# Altium footprint library Diodes.PcbLib: 15 footprints
Each footprint in its own frame and in the unit in brackets; x right, y up, seen from the top. Pads: shape width x height; smd on the part's side, far side on the other; paste and mask are expansions set on the pad; w line width, h text height; cw(c..) or ccw(c..) is an arc to the next point about the centre after c.
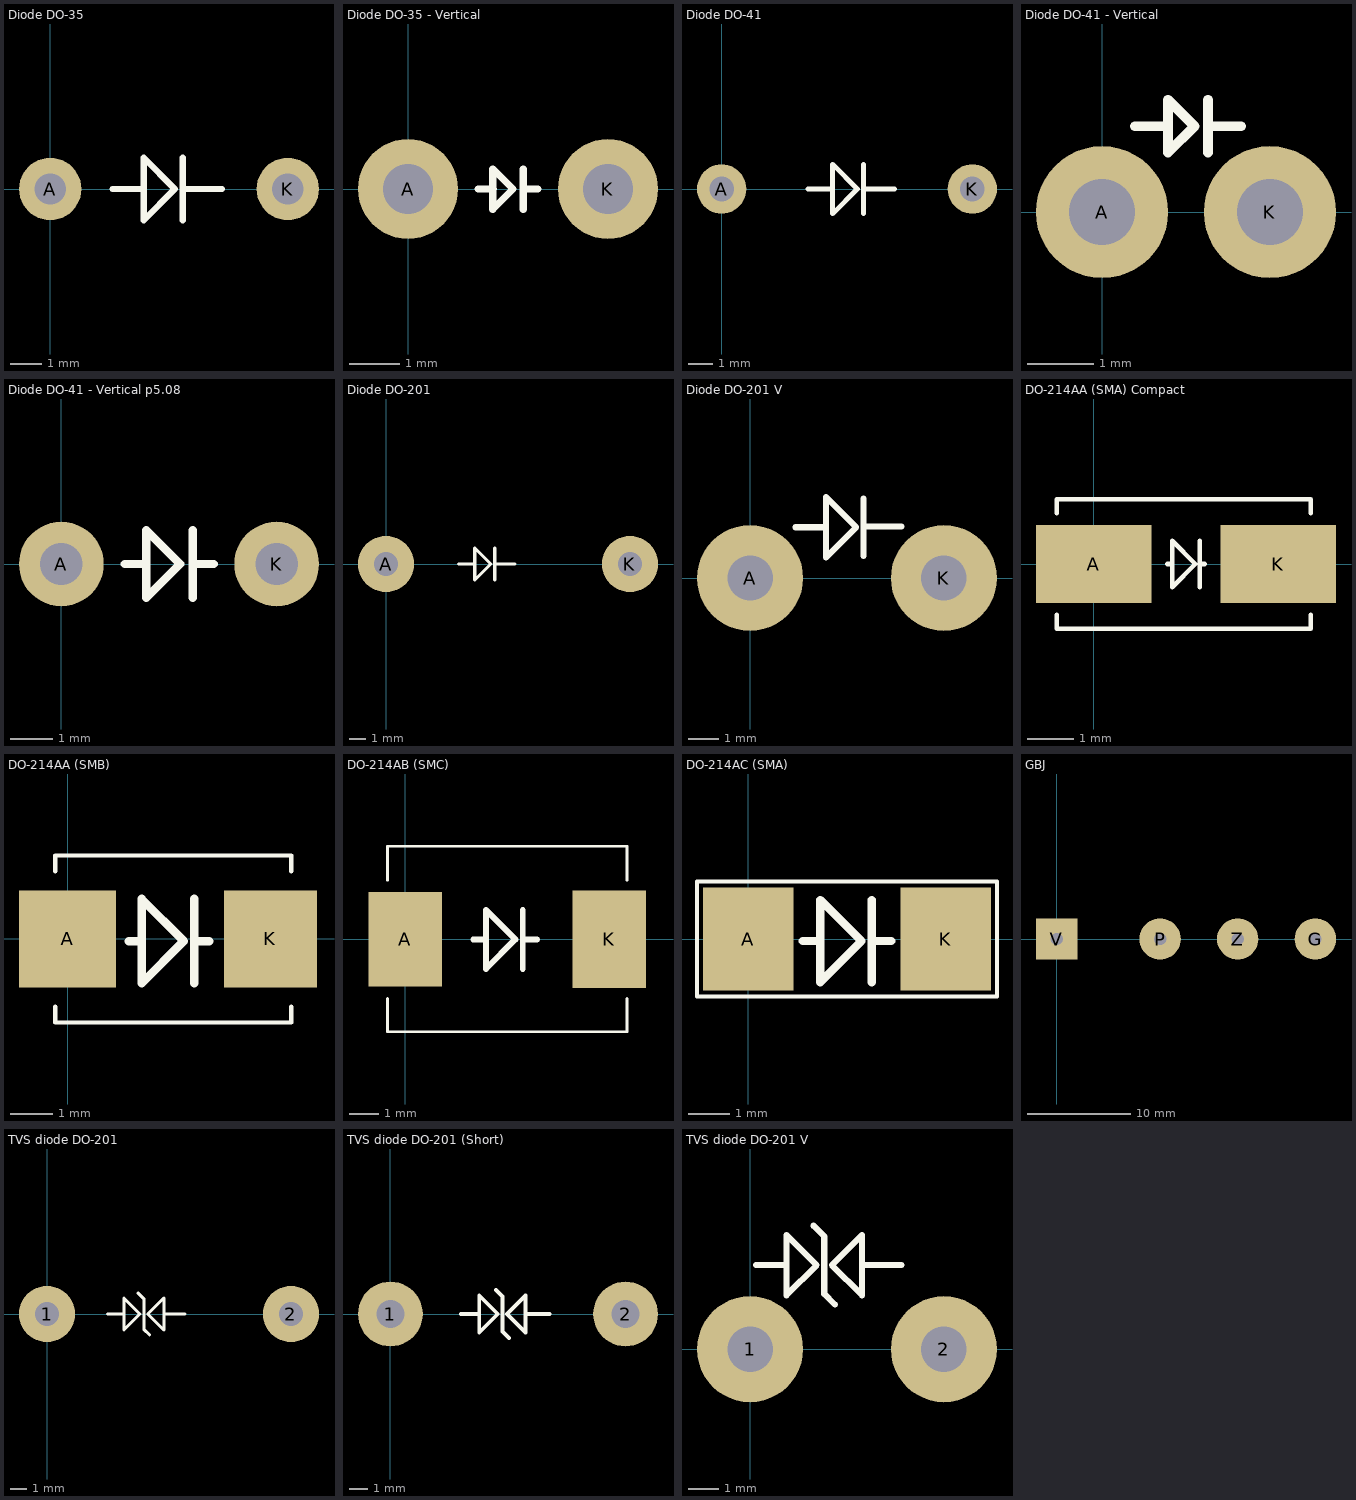
[diagram p0: the footprints below, top view; thin cyan lines are the x and y axes]

## Diode DO-35 [mm] "p7.62mm"
height 2
pads (2):
  round 2 hole 1: A(0,0) K(7.62,0)
Top Overlay:
  lines w0.2: 2,0 3,0 ; 4.25,-1 4.25,1 ; 4.25,0 5.5,0 ; 3,-1 4,0 3,1 3,-1
3D body "DO-204AH (DO-35).step": height 2.21, standoff -1.8, extent -0.32,-1 7.82,1.02

## Diode DO-35 - Vertical [mm] "p7.62mm"
height 2
pads (2):
  round 2 hole 1: A(0,0) K(4,0)
Top Overlay:
  lines w0.15: 1.4,0 1.7,0 ; 2.3,-0.4 2.3,0.4 ; 2.3,0 2.6,0 ; 1.7,-0.4 2.1,0 1.7,0.4 1.7,-0.4
3D body "DO-35 vertical 4mm.step": height 6.35, standoff -3.4, extent -0.751,-0.751 4.25,0.751

## Diode DO-41 [mm] "p10.16mm"
height 2
pads (2):
  round 2 hole 1: A(0,0) K(10.16,0)
Top Overlay:
  lines w0.2: 3.5,0 4.5,0 ; 5.75,-1 5.75,1 ; 5.75,0 7,0 ; 4.5,-1 5.5,0 4.5,1 4.5,-1
3D body "DO-41.step": height 2.73, standoff -2.6, extent -0.432,-1.37 10.592,1.37

## Diode DO-41 - Vertical [mm] "p10.16mm"
height 2
pads (2):
  round 2 hole 1: A(0,0) K(2.54,0)
Top Overlay:
  lines w0.15: 0.5,1.3 1,1.3 ; 1.6,0.9 1.6,1.7 ; 1.6,1.3 2.1,1.3 ; 1,0.9 1.4,1.3 1,1.7 1,0.9
3D body "DO-41 Vertical.STEP": height 9.64, standoff -4.5, extent -0.435,-1.365 3.9,1.365

## Diode DO-41 - Vertical p5.08 [mm] "p10.16mm"
height 2
pads (2):
  round 2 hole 1: A(0,0) K(5.08,0)
Top Overlay:
  lines w0.2: 1.5,0 2,0 ; 3.1,-0.8 3.1,0.8 ; 3.15,0 3.6,0 ; 2,-0.8 2,0.8 2.8,0 2,-0.8
3D body "DO-41 Vertical pitch 5.08mm.step": height 8.23, standoff -3.4, extent -1.3,-1.35 5.56,1.35

## Diode DO-201 [mm] "p6"
height 6
pads (2):
  round 3.5 hole 1.5: A(0,0) K(15.24,0)
Top Overlay:
  lines w0.2: 4.54,0 5.54,0 ; 6.79,-1 6.79,1 ; 6.79,0 8.04,0 ; 5.54,-1 5.54,1 6.54,0 5.54,-1
3D body "DO-201AD.STEP": height 7.6, standoff -4, extent -0.66,-2.8 15.9,2.8

## Diode DO-201 V [mm] "6p, p15.24mm"
height 6
pads (2):
  round 3.5 hole 1.5: A(0,0) K(6.4,0)
Top Overlay:
  lines w0.2: 1.5,1.675 2.5,1.675 ; 3.75,0.725 3.75,2.625 ; 3.75,1.7 5,1.7 ; 2.5,0.675 3.5,1.675 2.5,2.675 2.5,0.675
3D body "DO-201AV-Vertical.STEP": height 15.69, standoff -3, extent -2.8,-2.8 7.09,2.8

## DO-214AA (SMA) Compact [mm]
pads (2):
  rect 2.5x1.7 smd: A(0,0) K(4,0)
Top Overlay:
  lines w0.1: -0.8,-1.1 -0.8,-1.4 4.7,-1.4 4.7,-1.1 ; -0.8,1.1 -0.8,1.4 4.7,1.4 4.7,1.1 ; 1.6,0 1.7,0 ; 2.3,-0.5 2.3,0.5 ; 2.3,0 2.4,0 ; 2.2,0 2.2,0 ; 2.2,0 1.7,-0.5 1.7,0.5 2.2,0
3D body "DO-214AC.step": height 2.6, standoff 0.03, extent -0.775,-1.4 4.725,1.4

## DO-214AA (SMB) [mm]
pads (2):
  rect 2.3x2.3 smd: A(0,0)
  rect 2.2x2.3 smd: K(4.8,0)
Top Overlay:
  lines w0.1: -0.294,-1.606 -0.294,-1.975 5.294,-1.975 5.294,-1.606 ; -0.294,1.606 -0.294,1.975 5.294,1.975 5.294,1.606
  lines w0.2: 1.45,-0.05 1.75,-0.05 ; 3,-1.05 3,0.95 ; 3,-0.05 3.35,-0.05 ; 1.75,-1.05 2.75,-0.05 1.75,0.95 1.75,-1.05
3D body "DO-214AA (SMB).step": height 2.6, standoff -0.05, extent -0.294,-1.975 5.294,1.975

## DO-214AB (SMC) [mm]
pads (2):
  rect 2.5x3.2 smd: A(0,0)
  rect 2.5x3.3 smd: K(6.9,0)
Top Overlay:
  lines w0.1: -0.6,-2 -0.6,-3.125 7.5,-3.125 7.5,-2 ; -0.6,2 -0.6,3.15 7.5,3.15 7.5,2
  lines w0.2: 2.3,0 2.725,0 ; 3.975,-1 3.975,1 ; 3.975,0 4.45,0 ; 2.725,-1 2.725,1 3.725,0 2.725,-1
3D body "DO-214AB (SMC).step": height 2.63, standoff -0.01, extent -0.614,-3.15 7.514,3.15

## DO-214AC (SMA) [mm]
pads (2):
  rect 2.2x2.5 smd: A(0,0) K(4.8,0)
Top Overlay:
  lines w0.1: 6.05,-1.4 -1.25,-1.4 -1.25,0.8 -1.25,1.4 6.05,1.4 6.05,-1.375
  lines w0.2: 1.325,-0.05 1.75,-0.05 ; 3,-1.05 3,0.95 ; 3,-0.05 3.475,-0.05 ; 1.75,-1.05 1.75,0.95 2.75,-0.05 1.75,-1.05
3D body "DO-214AC.step": height 2.6, standoff 0.03, extent -0.425,-1.4 5.075,1.4

## GBJ [mm] "Diode Bridge GBJ case"
pads (4):
  round 4 hole 1.2: G(25,0) P(10,0) Z(17.5,0)
  rect 4x4 hole 1.2: V(0,0)
3D body: height 20, standoff 4.7, extent -0.6,-1.4 25.7,2.9

## TVS diode DO-201 [mm] "6p, p15.24mm"
height 6
pads (2):
  round 3.5 hole 1.5: 1(0,0) 2(15.24,0)
Top Overlay:
  lines w0.2: 3.8,0 4.8,0 ; 5.7,1.3 6.05,0.95 6.05,-0.95 6.4,-1.3 ; 7.35,0 8.6,0 ; 6.3,0 7.3,-1 7.3,1 6.3,0 ; 6.3,0 6.3,0 ; 4.8,-1 4.8,1 5.8,0 4.8,-1
3D body "DO-201AD.STEP": height 7.6, standoff -4, extent -0.66,-2.8 15.9,2.8

## TVS diode DO-201 (Short) [mm] "5p, p12.7mm"
height 6
pads (2):
  round 3.5 hole 1.5: 1(0,0) 2(12.7,0)
Top Overlay:
  lines w0.2: 3.8,0 4.8,0 ; 5.7,1.3 6.05,0.95 6.05,-0.95 6.4,-1.3 ; 7.35,0 8.6,0 ; 6.3,0 6.3,0 ; 6.3,0 7.3,1 7.3,-1 6.3,0 ; 4.8,-1 5.8,0 4.8,1 4.8,-1

## TVS diode DO-201 V [mm] "6p, p15.24mm"
height 6
pads (2):
  round 3.5 hole 1.5: 1(0,0) 2(6.4,0)
Top Overlay:
  lines w0.2: 0.2,2.775 1.2,2.775 ; 2.1,4.075 2.45,3.725 2.45,1.825 2.8,1.475 ; 3.75,2.775 5,2.775 ; 2.7,2.775 2.7,2.775 ; 2.7,2.775 3.7,3.775 3.7,1.775 2.7,2.775 ; 1.2,1.775 2.2,2.775 1.2,3.775 1.2,1.775
3D body "DO-201AV-Vertical.STEP": height 15.69, standoff -3, extent -2.8,-2.8 7.09,2.8